# Altium footprint library Temperature Sensors.PcbLib: 2 footprints
Each footprint in its own frame and in the unit in brackets; x right, y up, seen from the top. Pads: shape width x height; smd on the part's side, far side on the other; paste and mask are expansions set on the pad; w line width, h text height; cw(c..) or ccw(c..) is an arc to the next point about the centre after c.
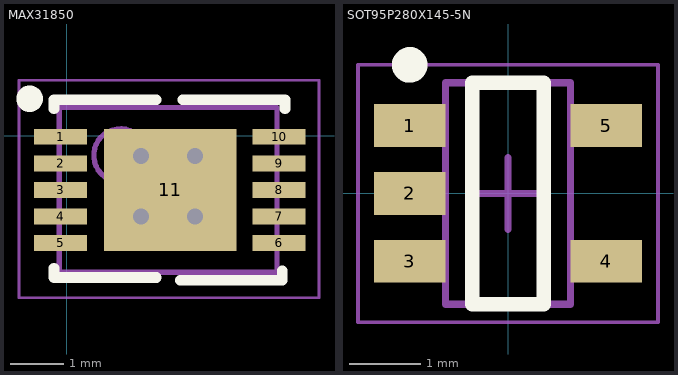
[diagram p0: the footprints below, top view; thin cyan lines are the x and y axes]

## MAX31850 [mm] "QFN, 10-Leads, Body 4.00x3.00mm, Pitch 0.50mm, Thermal Pad 2.65x2.60mm, IPC Medium Density"
height 0.8
pads (11):
  rect 1x0.3 smd: 1(-0.116,-0.016) 2(-0.116,-0.516) 3(-0.116,-1.016) 4(-0.116,-1.516) 5(-0.116,-2.016) 6(4,-2.016) 7(4,-1.516) 8(4,-1.016) 9(4,-0.516) 10(4,-0.016)
  rect 2.5x2.3 smd: 11(1.95,-1.016)
via 2.413,-1.516 diameter 0.6 hole 0.3
via 1.397,-1.516 diameter 0.6 hole 0.3
via 2.413,-0.381 diameter 0.6 hole 0.3
via 1.397,-0.381 diameter 0.6 hole 0.3
Top Overlay:
  circle w0.25: c-0.7,0.7 r0.125
  lines w0.2: -0.241,-2.491 -0.241,-2.666 1.684,-2.666 ; -0.241,0.509 -0.241,0.684 1.684,0.684 ; 2.134,-2.716 4.059,-2.716 4.059,-2.541 ; 2.184,0.684 4.109,0.684 4.109,0.509
Mechanical 13:
  circle w0.1: c1.009,-0.366 r0.5
  lines w0.1: -0.141,-2.566 3.959,-2.566 3.959,0.534 -0.141,0.534 -0.141,-2.566
Mechanical 15:
  lines w0.05: -0.9,-3.05 4.75,-3.05 4.75,1.05 -0.9,1.05 -0.9,-3.05
  lines w0.1: 1.659,-1.016 2.659,-1.016 ; 2.159,-1.516 2.159,-0.516
3D body "QFN50P400X300X80_HS-11N.step": height 0.8, standoff 0, extent -0.11,-2.55 4.01,0.55

## SOT95P280X145-5N [mm] "SOT23, 5-Leads, Body 2.95x2.80mm, Pitch 0.95mm, IPC Medium Density"
height 1.45
pads (5):
  rect 1x0.6 smd: 1(-1.375,0.95) 2(-1.375,0) 3(-1.375,-0.95) 4(1.375,-0.95) 5(1.375,0.95)
Top Overlay:
  circle w0.25: c-1.375,1.8 r0.125
  lines w0.2: -0.5,-1.55 -0.5,1.55 0.5,1.55 0.5,-1.55 -0.5,-1.55
Mechanical 13:
  lines w0.1: -0.875,-1.55 0.875,-1.55 0.875,1.55 -0.875,1.55 -0.875,-1.55
Mechanical 15:
  lines w0.05: -2.1,-1.8 2.1,-1.8 2.1,1.8 -2.1,1.8 -2.1,-1.8
  lines w0.1: -0.5,0 0.5,0 ; 0,-0.5 0,0.5
3D body "SOT95P280X145-5N.step": height 1.45, standoff 0, extent -1.5,-1.55 1.5,1.55